# Altium footprint library USB Type C vertical_SMD.PcbLib: 1 footprints
Each footprint in its own frame and in the unit in brackets; x right, y up, seen from the top. Pads: shape width x height; smd on the part's side, far side on the other; paste and mask are expansions set on the pad; w line width, h text height; cw(c..) or ccw(c..) is an arc to the next point about the centre after c.
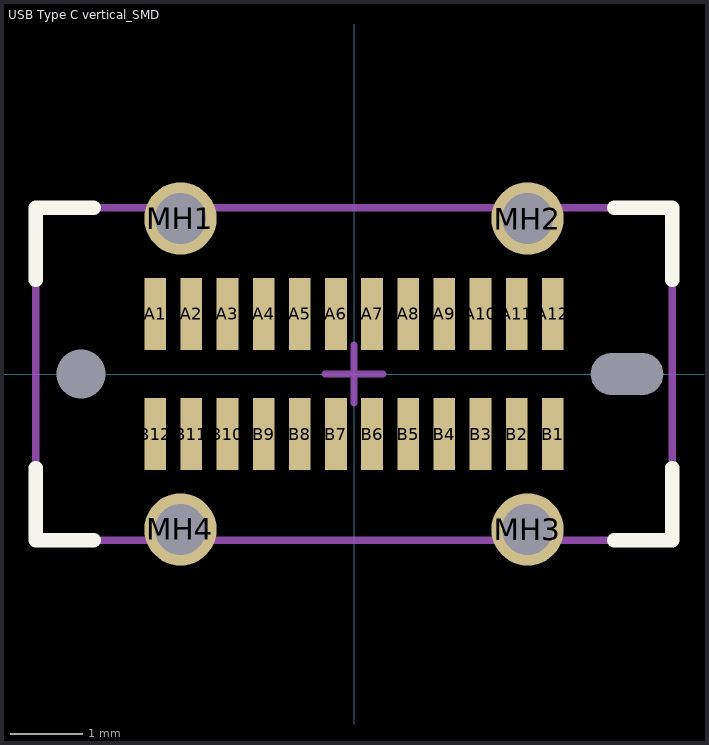
[diagram p0: the footprint, top view; thin cyan lines are the x and y axes]

## USB Type C vertical_SMD [mm]
height 9.3
pads (30):
  rect 0.3x1 smd: A1(-2.75,0.83) A2(-2.25,0.83) A3(-1.75,0.83) A4(-1.25,0.83) A5(-0.75,0.83) A6(-0.25,0.83) A7(0.25,0.83) A8(0.75,0.83) A9(1.25,0.83) A10(1.75,0.83) A11(2.25,0.83) A12(2.75,0.83) B1(2.75,-0.83) B2(2.25,-0.83) B3(1.75,-0.83) B4(1.25,-0.83) B5(0.75,-0.83) B6(0.25,-0.83) B7(-0.25,-0.83) B8(-0.75,-0.83) B9(-1.25,-0.83) B10(-1.75,-0.83) B11(-2.25,-0.83) B12(-2.75,-0.83)
  round 1 hole 0.7: MH1(-2.4,2.15) MH2(2.4,2.15) MH3(2.4,-2.15) MH4(-2.4,-2.15)
  round 0 hole 0.68 unplated: TH1(-3.775,0)
  round 0 hole 0.58 slot 1 at 0 deg unplated: TH2(3.775,0)
Top Overlay:
  lines w0.2: -4.4,-1.3 -4.4,-2.3 -3.6,-2.3 ; -4.4,1.3 -4.4,2.3 -3.6,2.3 ; 3.6,-2.3 4.4,-2.3 4.4,-1.3 ; 3.6,2.3 4.4,2.3 4.4,1.3
Mechanical 15:
  lines w0.1: -0.4,0 0.4,0 ; 0,-0.4 0,0.4 ; -4.4,-2.3 -4.4,2.3 4.4,2.3 4.4,-2.3 -4.4,-2.3
3D body: height 9.35, standoff -1.65, extent -4.37,-2.15 4.37,2.15